# EAGLE library part MAX537 (library ic)
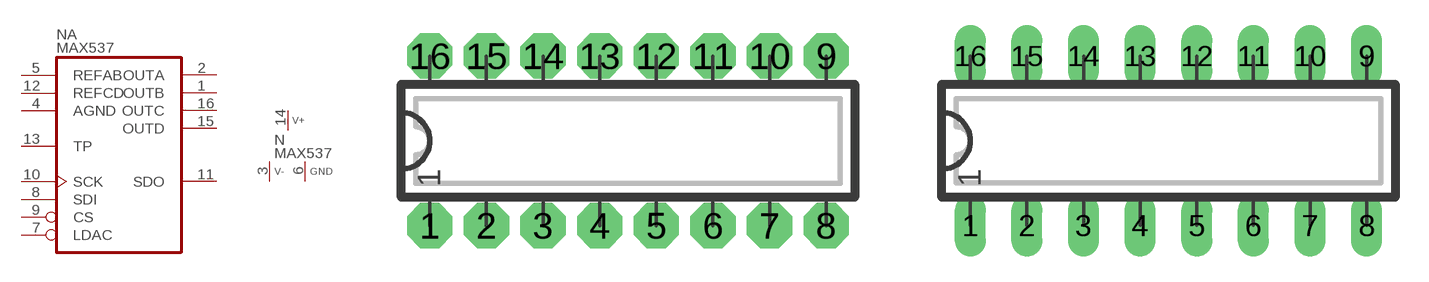
[diagram p31: symbol with the pads of DIP16N; footprints DIP16N, DIP16L]

Designator prefix N; gates A=MAX537 P=V+-GND

## MAX537N  [DIP16N]
1  A:OUTB  out
2  A:OUTA  out
3  P:V-  pwr
4  A:AGND  in
5  A:REFAB  in
6  P:GND  pwr
7  A:LDAC  in
8  A:SDI  in
9  A:CS  in
10  A:SCK  in
11  A:SDO  out
12  A:REFCD  in
13  A:TP  in
14  P:V+  pwr
15  A:OUTD  out
16  A:OUTC  out

## MAX537  [DIP16L]
Pads as for DIP16N

## MAX537L  [DIP16L]
Pads as for DIP16N

## MAX537R  [DIP16R]
Pads as for DIP16N

## Footprint DIP16N (pad centres in mm)
DIP-16 Standard IC package, 16 pins
drill 0.813 pad 2.032 octagon: 1 -8.89,-3.81; 2 -6.35,-3.81; 3 -3.81,-3.81; 4 -1.27,-3.81; 5 1.27,-3.81; 6 3.81,-3.81; 7 6.35,-3.81; 8 8.89,-3.81; 9 8.89,3.81; 10 6.35,3.81; 11 3.81,3.81; 12 1.27,3.81; 13 -1.27,3.81; 14 -3.81,3.81; 15 -6.35,3.81; 16 -8.89,3.81

## Footprint DIP16L (pad centres in mm)
DIP-16, long pads Standard IC package, 16 pins
drill 0.813 pad 1.397 long: 1 -8.89,-3.81; 2 -6.35,-3.81; 3 -3.81,-3.81; 4 -1.27,-3.81; 5 1.27,-3.81; 6 3.81,-3.81; 7 6.35,-3.81; 8 8.89,-3.81; 9 8.89,3.81; 10 6.35,3.81; 11 3.81,3.81; 12 1.27,3.81; 13 -1.27,3.81; 14 -3.81,3.81; 15 -6.35,3.81; 16 -8.89,3.81

## Footprint DIP16R (pad centres in mm)
DIP-16, reduced pads Standard IC package, 16 pins
drill 0.813 pad 1.397 square: 1 -8.89,-3.81; 2 -6.35,-3.81; 3 -3.81,-3.81; 4 -1.27,-3.81; 5 1.27,-3.81; 6 3.81,-3.81; 7 6.35,-3.81; 8 8.89,-3.81; 9 8.89,3.81; 10 6.35,3.81; 11 3.81,3.81; 12 1.27,3.81; 13 -1.27,3.81; 14 -3.81,3.81; 15 -6.35,3.81; 16 -8.89,3.81